# EAGLE library part SLG46117V (library GREENPAK)
GreenPAK3 SLG46117V Silego Technology www.silego.com
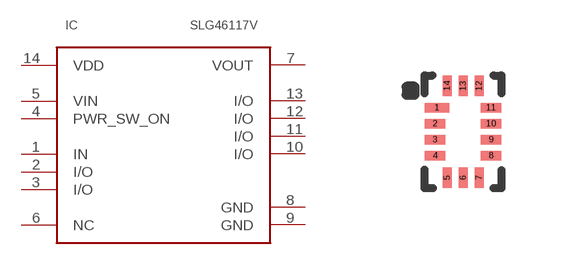
[diagram p3: symbol with the pads of STQFN-14-1.6X2.5_N; footprint STQFN-14-1.6X2.5_N]

Designator prefix IC

## SLG46117V  [STQFN-14-1.6X2.5_N]
1  IN
2  I/O
3  I/O
4  PWR_SW_ON
5  VIN
6  NC
7  VOUT
8  GND
9  GND
10  I/O
11  I/O
12  I/O
13  I/O
14  VDD

## Footprint STQFN-14-1.6X2.5_N (pad centres in mm)
smd 0.61 x 0.23: 1 -0.65,0.6
smd 0.51 x 0.23: 2 -0.7,0.2; 3 -0.7,-0.2; 4 -0.7,-0.6; 8 0.7,-0.6; 9 0.7,-0.2; 10 0.7,0.2; 11 0.7,0.6
smd 0.23 x 0.51: 5 -0.4,-1.15; 6 0,-1.15; 7 0.4,-1.15; 12 0.4,1.15; 13 0,1.15; 14 -0.4,1.15